# Altium schematic symbol library Misc.SchLib: 1 symbol
Pins are listed as number, name and electrical type; pins without a type are passive.

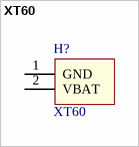
[diagram p0: symbol XT60]

## XT60
designator H?
XT60 Connector Male/Female; Manufacturer_Name: SparkFun; Manufacturer_Part_Number: PRT-10474; Geometry.Height: 15.875mm; Mouser Part Number: 474-PRT-10474; Mouser Price/Stock: https://www.mouser.com/Search/Refine.aspx?Keyword=474-PRT-10474; RS Part Number: *; RS Price/Stock: *; Datasheet Link: http://cdn.sparkfun.com/datasheets/Prototyping/xt60.pdf
footprint XT60 (XT60 connector)
pins: 1 GND, 2 VBAT (power)